# Altium integrated library HCPL-316J.IntLib: 1 symbol
Pins are listed as number, name and electrical type; pins without a type are passive.

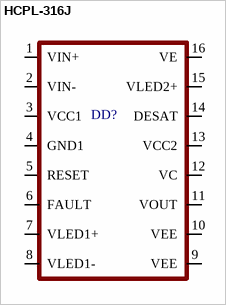
[diagram p0: symbol HCPL-316J]

## HCPL-316J
designator DD?
footprint SO16_W
pins: 1 VIN+, 2 VIN-, 3 VCC1, 4 GND1, 5 RESET, 6 FAULT, 7 VLED1+, 8 VLED1-, 9 VEE, 10 VEE, 11 VOUT, 12 VC, 13 VCC2, 14 DESAT, 15 VLED2+, 16 VE